# Altium schematic symbol library DIODE ZENER 3.3 200mW.SchLib: 1 symbol
Pins are listed as number, name and electrical type; pins without a type are passive.

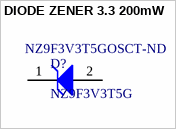
[diagram p0: symbol DIODE ZENER 3.3 200mW]

## DIODE ZENER 3.3 200mW
designator D?, comment NZ9F3V3T5G  Supplier Part Number 1: NZ9F3V3T5GOSCT-ND
Zener Diode 3.3 V 200 mW ±5% Surface Mount SOD-923; Mfr_Name: ON Semiconductor; Type: DEV; Copyright: Copyright (C) 2021 Ultra Librarian. All rights reserved.; Manufacturer_Part_Number: NZ9F3V3T5G; Digi-Key_Part_Number_1: NZ9F3V3T5GOSTR-ND; Digi-Key_Part_Number_2: NZ9F3V3T5GOSCT-ND; Digi-Key_Part_Number_3: NZ9F3V3T5GOSDKR-ND; RefDes: RefDes; Supplier 1: Digi-Key
footprint SOD-923_0P6X0P85_ONS
pins: 1 K, 2 A